# Altium footprint library THB7128.PcbLib: 5 footprints
Each footprint in its own frame and in the unit in brackets; x right, y up, seen from the top. Pads: shape width x height; smd on the part's side, far side on the other; paste and mask are expansions set on the pad; w line width, h text height; cw(c..) or ccw(c..) is an arc to the next point about the centre after c.
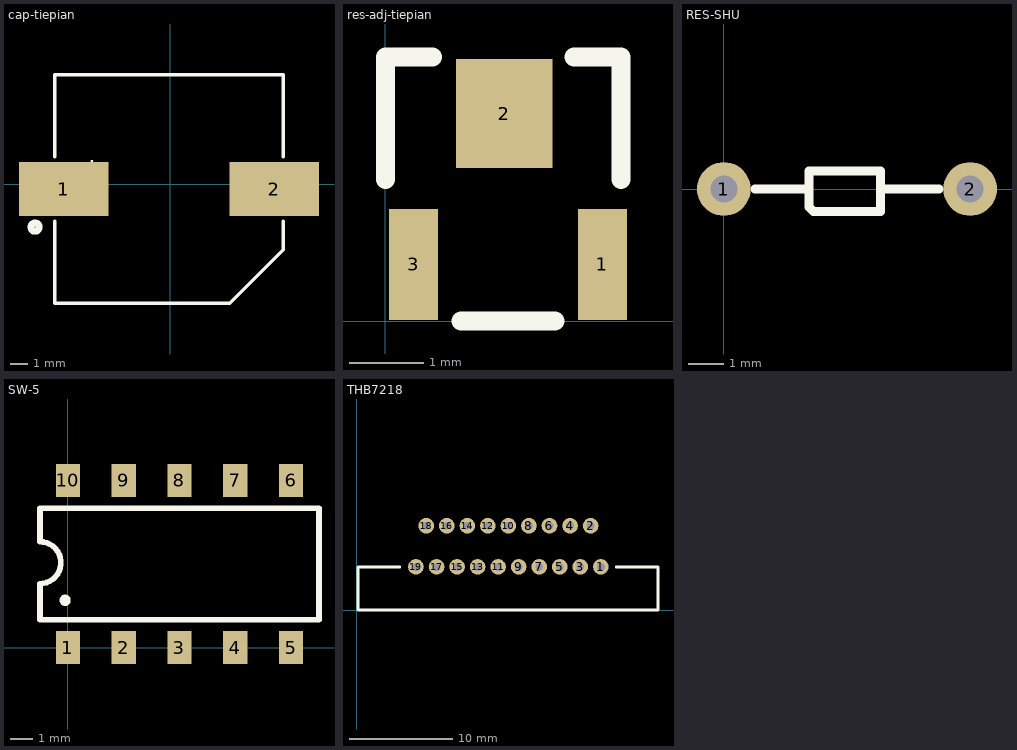
[diagram p0: the footprints below, top view; thin cyan lines are the x and y axes]

## cap-tiepian [mm]
pads (2):
  rect 5x3 smd: 1(-5.969,-0.254) 2(5.831,-0.254)
Top Overlay:
  circle w0.4: c-7.569,-2.388 r0.227
  lines w0.2: -6.469,-2.054 -6.469,-6.654 3.331,-6.654 6.331,-3.654 6.331,-2.054 ; -6.469,1.546 -6.469,6.146 6.331,6.146 6.331,1.546
  text "+" at -5.08,0.33 h1.2

## res-adj-tiepian [mm]
pads (3):
  rect 0.66x1.5 smd: 1(2.921,0.762) 3(0.381,0.762)
  rect 1.3x1.47 smd: 2(1.6,2.794)
Top Overlay:
  lines w0.254: 0,1.905 0,3.556 0.635,3.556 ; 1.016,0 2.286,0 ; 2.54,3.556 3.175,3.556 3.175,1.905

## RES-SHU [mil]
pads (2):
  round 60 hole 30: 1(0,0) 2(275,0)
Top Overlay:
  lines w10: 35,0 95,0 ; 175,0 240,0 ; 95,0 95,-20 100,-25 175,-25 175,20 95,20 95,0

## SW-5 [mm]
pads (10):
  rect 1.1x1.5 smd: 1(0,0) 2(2.54,0) 3(5.08,0) 4(7.62,0) 5(10.16,0) 6(10.16,7.62) 7(7.62,7.62) 8(5.08,7.62) 9(2.54,7.62) 10(0,7.62)
Top Overlay:
  circle w0.254: c-0.127,2.159 r0.127
  lines w0.254: -1.27,1.27 -1.27,2.917 ccw(c-1.27,3.871) -1.27,4.826 -1.27,6.35 11.43,6.35 11.43,1.27 -1.27,1.27

## THB7218 [mil]
pads (19):
  round 60 hole 30: 1(935.91,165.35) 2(896.54,322.83) 3(857.17,165.35) 4(817.8,322.83) 5(778.43,165.35) 6(739.06,322.83) 7(699.68,165.35) 8(660.32,322.83) 9(620.94,165.35) 10(581.57,322.83) 11(542.2,165.35) 12(502.83,322.83) 13(463.46,165.35) 14(424.09,322.83) 15(384.72,165.35) 16(345.35,322.83) 17(305.98,165.35) 18(266.61,322.83) 19(227.24,165.35)
Top Overlay:
  lines w10: 5,165 5,0 1155,0 1155,165 995,165 ; 10,165 165,165